# EAGLE library part MAX4907 (library maxim)
High-/Full-Speed USB 2.0 Switches Source: http://datasheets.maxim-ic.com/en/ds/MAX4906-MAX4907F.pdf
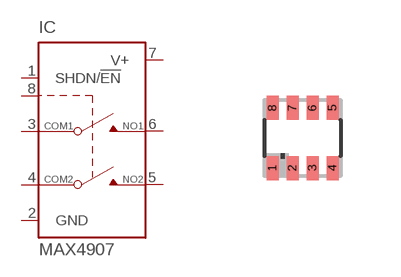
[diagram p339: symbol with the pads of UDFN8; footprint UDFN8]

Designator prefix IC

## MAX4907ELB (OC_FARNELL: unknown; OC_NEWARK: unknown), MAX4907FELB (OC_FARNELL: unknown; OC_NEWARK: unknown)  [UDFN8]
1  SHDN/!EN  in
2  GND  pwr
3  COM1
4  COM2
5  NO2
6  NO1
7  V+  in
8  IN  in

## Footprint UDFN8 (pad centres in mm)
uDFN 8 Source: http://datasheets.maxim-ic.com/en/ds/MAX4906-MAX4907F.pdf
smd 0.3 x 0.6: 1 -0.75,-0.75; 2 -0.25,-0.75; 3 0.25,-0.75; 4 0.75,-0.75; 5 0.75,0.75; 6 0.25,0.75; 7 -0.25,0.75; 8 -0.75,0.75